# Altium footprint library ECS-LVDS25-1250-A.PcbLib: 1 footprints
Each footprint in its own frame and in the unit in brackets; x right, y up, seen from the top. Pads: shape width x height; smd on the part's side, far side on the other; paste and mask are expansions set on the pad; w line width, h text height; cw(c..) or ccw(c..) is an arc to the next point about the centre after c.
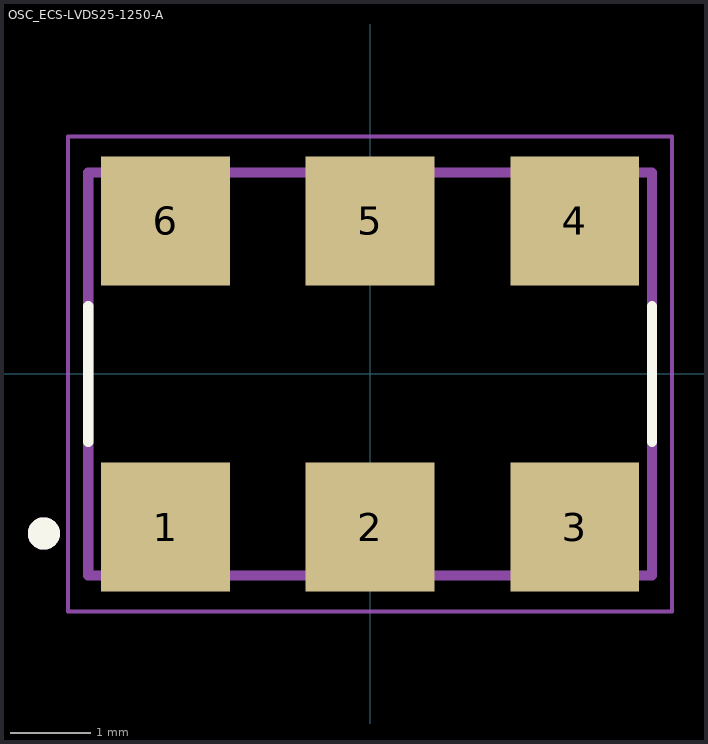
[diagram p0: the footprint, top view; thin cyan lines are the x and y axes]

## OSC_ECS-LVDS25-1250-A [mm]
pads (6):
  rect 1.6x1.6 smd: 1(-2.54,-1.9) 2(0,-1.9) 3(2.54,-1.9) 4(2.54,1.9) 5(0,1.9) 6(-2.54,1.9)
Top Overlay:
  circle w0.2: c-4.05,-1.98 r0.1
  lines w0.127: -3.5,-0.84 -3.5,0.84 ; 3.5,-0.84 3.5,0.84
Mechanical 13:
  circle w0.2: c-4.05,-1.98 r0.1
  lines w0.127: -3.5,-2.5 3.5,-2.5 3.5,2.5 -3.5,2.5 -3.5,-2.5
Mechanical 15:
  lines w0.05: -3.75,-2.95 -3.75,2.95 3.75,2.95 3.75,-2.95 -3.75,-2.95
3D body "step_temp.STEP": height 1.7, standoff 0, extent -3.5,-2.5 3.5,2.5